# EAGLE library part MICROSDSOCK (library domonetic)
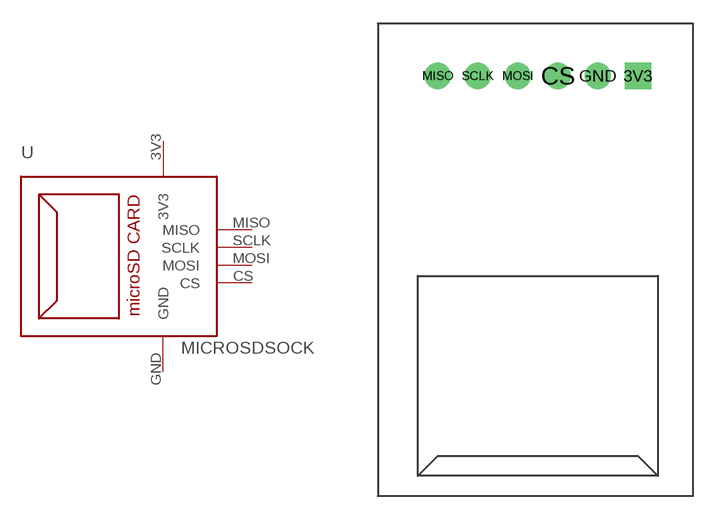
[diagram p8: symbol with the pads of MICROSDCARDSOCK; footprint MICROSDCARDSOCK]

Designator prefix -

## MICROSDSOCK  [MICROSDCARDSOCK]
3V3  3V3
CS  CS
GND  GND
MISO  MISO
MOSI  MOSI
SCLK  SCLK

## Footprint MICROSDCARDSOCK (pad centres in mm)
drill 0.8 pad 1.676 square: 3V3 16.51,26.67
drill 0.8 pad 1.676: CS 11.43,26.67; GND 13.97,26.67; MISO 3.81,26.67; MOSI 8.89,26.67; SCLK 6.35,26.67